# Altium integrated library Altium Database Library V2.IntLib: 376 symbols (part 3 of 17)

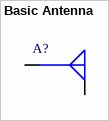
[diagram p46: symbol Basic Antenna]

## Basic Antenna
designator A?
pins: G, S


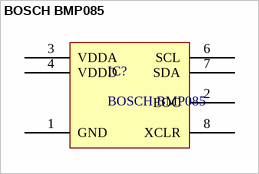
[diagram p47: symbol BOSCH BMP085]

## BOSCH BMP085
designator IC?
Bosch BMP085 Digital pressure sensor
pins: 1 GND "Desc1", 2 EOC "Desc1", 3 VDDA "Desc1", 4 VDDD "Desc1", 6 SCL "Desc1", 7 SDA "Desc1", 8 XCLR "Desc1"


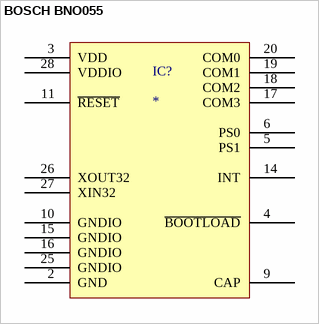
[diagram p48: symbol BOSCH BNO055]

## BOSCH BNO055
designator IC?
pins: 2 GND, 3 VDD, 4 ~{BOOTL}~{OAD}, 5 PS1, 6 PS0, 9 CAP, 10 GNDIO, 11 ~{RESET}, 14 INT, 15 GNDIO, 16 GNDIO, 17 COM3, 18 COM2, 19 COM1, 20 COM0, 25 GNDIO, 26 XOUT32, 27 XIN32, 28 VDDIO


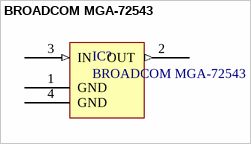
[diagram p49: symbol BROADCOM MGA-72543]

## BROADCOM MGA-72543
designator IC?
PHEMT* Low Noise Amplifi er with Bypass Switch
pins: 1 GND "Desc1", 2 OUT (out) "Desc1", 3 IN (in) "Desc1", 4 GND "Desc1"


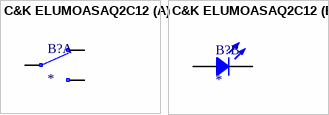
[diagram p50: symbol C&K ELUMOASAQ2C12]

## C&K ELUMOASAQ2C12
designator B?
part A pins: 2 NO, 3 C, 4 NC
part B pins: 1 C, 5 A


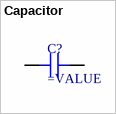
[diagram p51: symbol Capacitor]

## Capacitor
designator C?
SMT Capacitor
pins: 1, 2


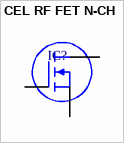
[diagram p52: symbol CEL RF FET N-CH]

## CEL RF FET N-CH
designator IC?
pins: 1 S, 2 D, 3 S, 4 G


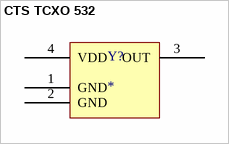
[diagram p53: symbol CTS TCXO 532]

## CTS TCXO 532
designator Y?
SMD TCXO
pins: 1 GND, 2 GND, 3 OUT, 4 VDD


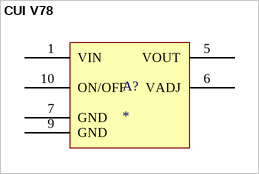
[diagram p54: symbol CUI V78]

## CUI V78
designator A?
pins: 1 VIN, 5 VOUT, 6 VADJ, 7 GND, 9 GND, 10 ON/OFF


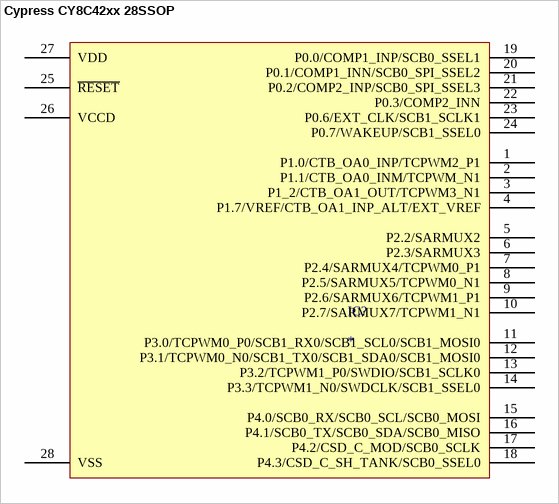
[diagram p55: symbol Cypress CY8C42xx 28SSOP]

## Cypress CY8C42xx 28SSOP
designator IC?
pins: 1 P1.0/CTB_OA0_INP/TCPWM2_P1, 2 P1.1/CTB_OA0_INM/TCPWM_N1, 3 P1_2/CTB_OA1_OUT/TCPWM3_N1, 4 P1.7/VREF/CTB_OA1_INP_ALT/EXT_VREF, 5 P2.2/SARMUX2, 6 P2.3/SARMUX3, 7 P2.4/SARMUX4/TCPWM0_P1, 8 P2.5/SARMUX5/TCPWM0_N1, 9 P2.6/SARMUX6/TCPWM1_P1, 10 P2.7/SARMUX7/TCPWM1_N1, 11 P3.0/TCPWM0_P0/SCB1_RX0/SCB1_SCL0/SCB1_MOSI0, 12 P3.1/TCPWM0_N0/SCB1_TX0/SCB1_SDA0/SCB1_MOSI0, 13 P3.2/TCPWM1_P0/SWDIO/SCB1_SCLK0, 14 P3.3/TCPWM1_N0/SWDCLK/SCB1_SSEL0, 15 P4.0/SCB0_RX/SCB0_SCL/SCB0_MOSI, 16 P4.1/SCB0_TX/SCB0_SDA/SCB0_MISO, 17 P4.2/CSD_C_MOD/SCB0_SCLK, 18 P4.3/CSD_C_SH_TANK/SCB0_SSEL0, 19 P0.0/COMP1_INP/SCB0_SSEL1, 20 P0.1/COMP1_INN/SCB0_SPI_SSEL2, 21 P0.2/COMP2_INP/SCB0_SPI_SSEL3, 22 P0.3/COMP2_INN, 23 P0.6/EXT_CLK/SCB1_SCLK1, 24 P0.7/WAKEUP/SCB1_SSEL0, 25 ~{RESET}, 26 VCCD, 27 VDD, 28 VSS


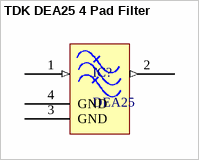
[diagram p56: symbol TDK DEA25 4 Pad Filter]

## TDK DEA25 4 Pad Filter
designator IC?, comment DEA25
Multilayer chip band pass filter
pins: 1 IN (in) "Desc1", 2 OUT (out) "Desc1", 3 GND "Desc1", 4 GND "Desc1"


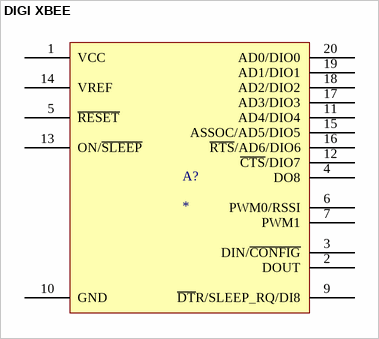
[diagram p57: symbol DIGI XBEE]

## DIGI XBEE
designator A?
pins: 1 VCC, 2 DOUT, 3 DIN/~{CONFIG}, 4 DO8, 5 ~{RESET}, 6 PWM0/RSSI, 7 PWM1, 9 ~{DT}R/SLEEP_RQ/DI8, 10 GND, 11 AD4/DIO4, 12 ~{CTS}/DIO7, 13 ON/~{SLEEP}, 14 VREF, 15 ASSOC/AD5/DIO5, 16 ~{RTS}/AD6/DIO6, 17 AD3/DIO3, 18 AD2/DIO2, 19 AD1/DIO1, 20 AD0/DIO0


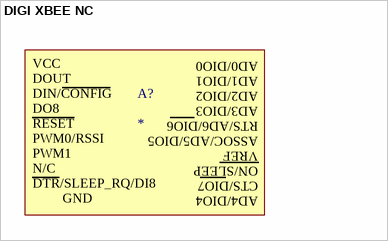
[diagram p58: symbol DIGI XBEE NC]

## DIGI XBEE NC
designator A?
text: AD0/DIO0; VCC; AD1/DIO1; DOUT; AD2/DIO2; DIN/CONFIG; AD3/DIO3; DO8; RTS/AD6/DIO6; RESET; ASSOC/AD5/DIO5; PWM0/RSSI; VREF; PWM1; ON/SLEEP; N/C; CTS/DIO7; DTR/SLEEP_RQ/DI8; AD4/DIO4; GND


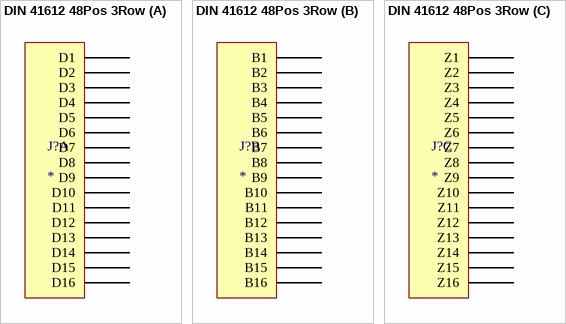
[diagram p59: symbol DIN 41612 48Pos 3Row]

## DIN 41612 48Pos 3Row
designator J?
part A pins: D1, D2, D3, D4, D5, D6, D7, D8, D9, D10, D11, D12, D13, D14, D15, D16
part B pins: B1, B2, B3, B4, B5, B6, B7, B8, B9, B10, B11, B12, B13, B14, B15, B16
part C pins: Z1, Z2, Z3, Z4, Z5, Z6, Z7, Z8, Z9, Z10, Z11, Z12, Z13, Z14, Z15, Z16


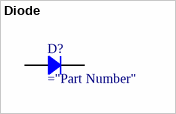
[diagram p60: symbol Diode]

## Diode
designator D?
Rectifier Diode
pins: 1, 2


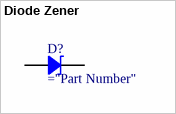
[diagram p61: symbol Diode Zener]

## Diode Zener
designator D?
Zener Diode
pins: 1, 2


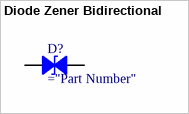
[diagram p62: symbol Diode Zener Bidirectional]

## Diode Zener Bidirectional
designator D?
Bidirectional Zener Diode
pins: 1, 2


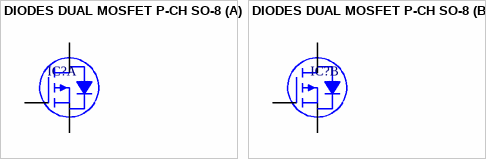
[diagram p63: symbol DIODES DUAL MOSFET P-CH SO-8]

## DIODES DUAL MOSFET P-CH SO-8
designator IC?
part A pins: 1 S1, 2 G1, 7 D1, 8 D1
part B pins: 3 S2, 4 G2, 5 D2, 6 D2


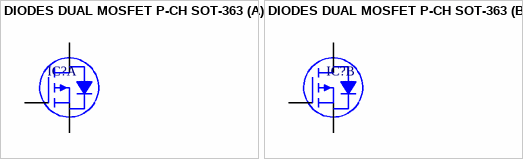
[diagram p64: symbol DIODES DUAL MOSFET P-CH SOT-363]

## DIODES DUAL MOSFET P-CH SOT-363
designator IC?
part A pins: 1 S1, 2 G1, 6 D1
part B pins: 3 D2, 4 S2, 5 G2


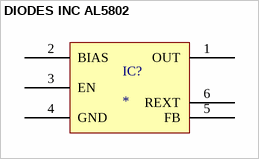
[diagram p65: symbol DIODES INC AL5802]

## DIODES INC AL5802
designator IC?
pins: 1 OUT, 2 BIAS, 3 EN, 4 GND, 5 FB, 6 REXT


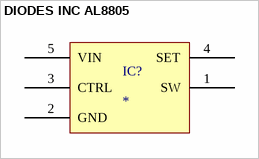
[diagram p66: symbol DIODES INC AL8805]

## DIODES INC AL8805
designator IC?
pins: 1 SW, 2 GND, 3 CTRL, 4 SET, 5 VIN


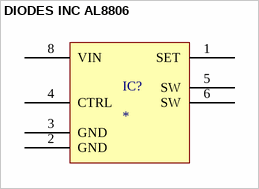
[diagram p67: symbol DIODES INC AL8806]

## DIODES INC AL8806
designator IC?
pins: 1 SET, 2 GND, 3 GND, 4 CTRL, 5 SW, 6 SW, 8 VIN


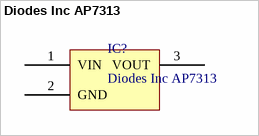
[diagram p68: symbol Diodes Inc AP7313]

## Diodes Inc AP7313
designator IC?
150mA Low quiescent current fast transient low drop out linear regulator
pins: 1 VIN, 2 GND, 3 VOUT
